# EAGLE library part BOOST-CONVERTER-TPS6103X/TPS6109X (library FlashPCB_ICs)
TPX6103x / TPS6109x - IC REG BOOST ADJ 16QFN Technical Specifications: Boost Switching Regulator IC Positive Adjustable 1 Output 1.8V (Switch) 16-VQFN Exposed Pad Function: Step-Up / Boost Converter Output Configuration: Positive Number of Outputs: 1 Input Voltage: 1.8V~5.5V Output Voltage:1.8V~5.5V Output Current: 2A(TPS6109x) / 3.6A(TPS6103x) Switching Frequency: 600kHz Component Search: TPS6103x / TPS6109x <https://www.flashpcb.com/components> Datasheet: TPS6103x 96% Efficient Synchronous Boost Converter With 4A Switch datasheet (Rev. G) <https://www.ti.com/lit/ds/symlink/tps61030.pdf?HQS=dis-dk-null-digikeymode-dsf-pf-null-wwe&ts=1685997810116&ref_url=https%253A%252F%252Fwww.ti.com%252Fgeneral%252Fdocs%252Fsuppproductinfo.tsp%253FdistId%253D10%2526gotoUrl%253Dhttps%253A%252F%252Fwww.ti.com%252Flit%252Fgpn%252Ftps61030> Datasheet: TPS6109x Synchronous Boost Converter With 2-A Switch datasheet (Rev. C) <https://www.ti.com/lit/ds/symlink/tps61090.pdf?HQS=dis-dk-null-digikeymode-dsf-pf-null-wwe&ts=1686151518509&ref_url=https%253A%252F%252Fwww.ti.com%252Fgeneral%252Fdocs%252Fsuppproductinfo.tsp%253FdistId%253D10%2526gotoUrl%253Dhttps%253A%252F%252Fwww.ti.com%252Flit%252Fgpn%252Ftps61090>
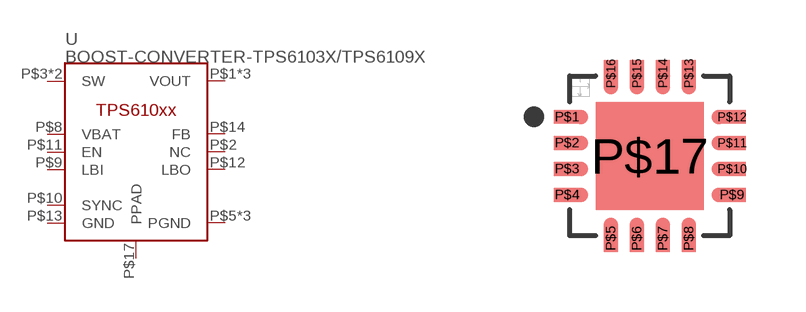
[diagram p27: symbol with the pads of 16-QFN(4X4); footprint 16-QFN(4X4)]

Designator prefix U

## BOOST-CONVERTER-TPS6103X/TPS6109XRSA  [16-QFN(4X4)]
P$1  VOUT
P$2  NC
P$3  SW
P$4  SW
P$5  PGND
P$6  PGND
P$7  PGND
P$8  VBAT
P$9  LBI
P$10  SYNC
P$11  EN
P$12  LBO
P$13  GND
P$14  FB
P$15  VOUT
P$16  VOUT
P$17  PPAD

## Footprint 16-QFN(4X4) (pad centres in mm)
smd 0.675 x 0.35: P$1 -2.062,0.975; P$2 -2.062,0.325; P$3 -2.062,-0.325; P$4 -2.062,-0.975; P$9 2.062,-0.975; P$10 2.062,-0.325; P$11 2.062,0.325; P$12 2.062,0.975
smd 0.35 x 0.675: P$5 -0.975,-2.062; P$6 -0.325,-2.062; P$7 0.325,-2.062; P$8 0.975,-2.062; P$13 0.975,2.062; P$14 0.325,2.062; P$15 -0.325,2.062; P$16 -0.975,2.062
smd 2.7 x 2.7: P$17 0,0